# Altium footprint library PcbLib1.PcbLib: 6 footprints
Each footprint in its own frame and in the unit in brackets; x right, y up, seen from the top. Pads: shape width x height; smd on the part's side, far side on the other; paste and mask are expansions set on the pad; w line width, h text height; cw(c..) or ccw(c..) is an arc to the next point about the centre after c.
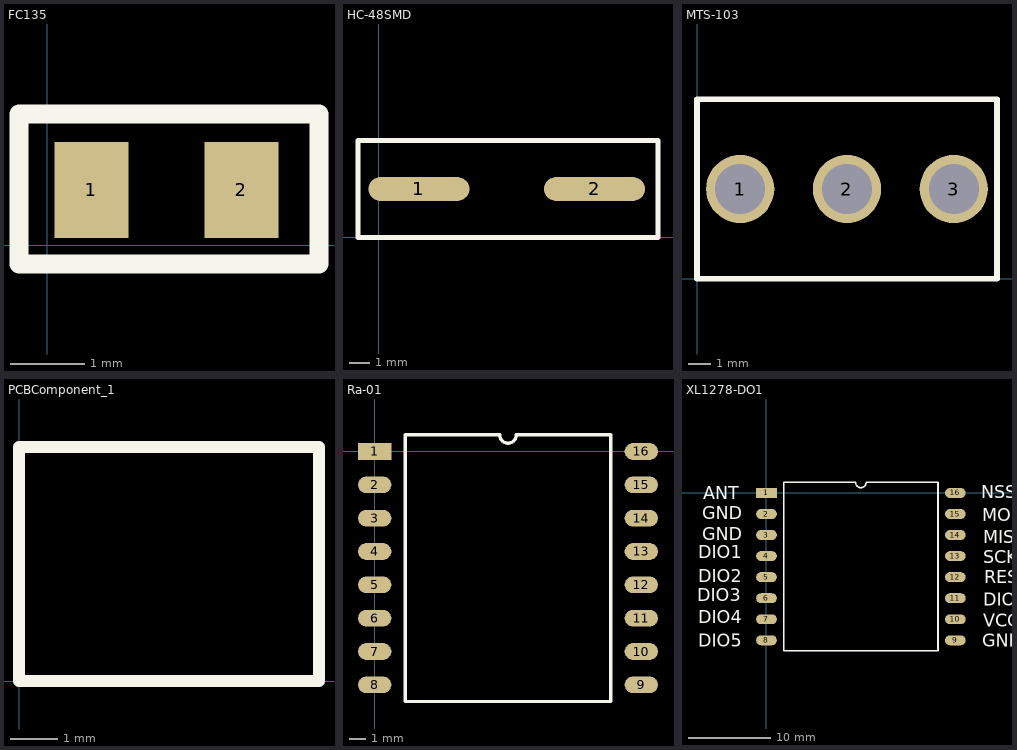
[diagram p0: the footprints below, top view; thin cyan lines are the x and y axes]

## FC135 [mm]
pads (2):
  rect 1x1.3 all layers, no hole: 1(0.6,0.75) 2(2.632,0.75)
Top Overlay:
  lines w0.254: -0.381,-0.254 -0.381,1.778 0.508,1.778 2.54,1.778 3.683,1.778 3.683,1.651 3.683,-0.254 -0.381,-0.254

## HC-48SMD [mm]
pads (2):
  oval 5x1.2 smd: 1(2,2.4) 2(10.7,2.4)
Top Overlay:
  lines w0.254: -1.016,0 13.843,0 13.843,4.8 -1.016,4.8 -1.016,0

## MTS-103 [mm]
height 7.9
pads (3):
  round 3 hole 2.2: 1(1.9,3.95) 2(6.599,3.95) 3(11.298,3.95)
Top Overlay:
  lines w0.254: 0,0 0,7.9 13.2,7.9 13.2,0 0,0

## PCBComponent_1 [mm]
Top Overlay:
  lines w0.254: 0,0 0,4.953 6.35,4.953 6.35,0 0,0

## Ra-01 [mm]
pads (16):
  rect 2x1 smd: 1(0,0)
  oval 2x1 smd: 2(0,-2) 3(0,-4) 4(0,-6) 5(0,-8) 6(0,-10) 7(0,-12) 8(0,-14) 9(16,-14) 10(16,-12) 11(16,-10) 12(16,-8) 13(16,-6) 14(16,-4) 15(16,-2) 16(16,0)
Top Overlay:
  lines w0.2: 1.835,-15 1.835,1 7.5,1 ccw(c8,1) 8.5,1 14.165,1 14.165,-15 1.835,-15

## XL1278-DO1 [mm]
pads (16):
  rect 2.5x1.2 smd: 1(0,0)
  oval 2.5x1.2 smd: 2(0,-2.54) 3(0,-5.08) 4(0,-7.62) 5(0,-10.16) 6(0,-12.7) 7(0,-15.24) 8(0,-17.78) 9(22.78,-17.78) 10(22.78,-15.24) 11(22.78,-12.7) 12(22.78,-10.16) 13(22.78,-7.62) 14(22.78,-5.08) 15(22.78,-2.54) 16(22.78,0)
Top Overlay:
  lines w0.2: 2.085,-19.05 20.695,-19.05 20.695,1.27 12.025,1.27 cw(c11.39,1.27) 10.755,1.27 2.085,1.27 2.085,-19.05
  text "GND" at 26.035,-18.542 h1.52
  text "VCC" at 26.162,-16.129 h1.52
  text "DIO0" at 26.162,-13.589 h1.52
  text "REST" at 26.289,-10.922 h1.52
  text "SCK" at 26.162,-8.509 h1.52
  text "MOSI" at 26.035,-3.429 h1.52
  text "MISO" at 26.162,-6.096 h1.52
  text "NSS" at 25.908,-0.635 h1.52
  text "DIO5" at -8.255,-18.542 h1.52
  text "DIO4" at -8.255,-15.748 h1.52
  text "DIO3" at -8.382,-13.081 h1.52
  text "DIO2" at -8.255,-10.795 h1.52
  text "DIO1" at -8.255,-7.874 h1.52
  text "GND" at -7.747,-5.715 h1.52
  text "GND" at -7.747,-3.175 h1.52
  text "ANT" at -7.62,-0.762 h1.52